# Altium schematic symbol library Regular_Components.SchLib: 60 symbols
Pins are listed as number, name and electrical type; pins without a type are passive.

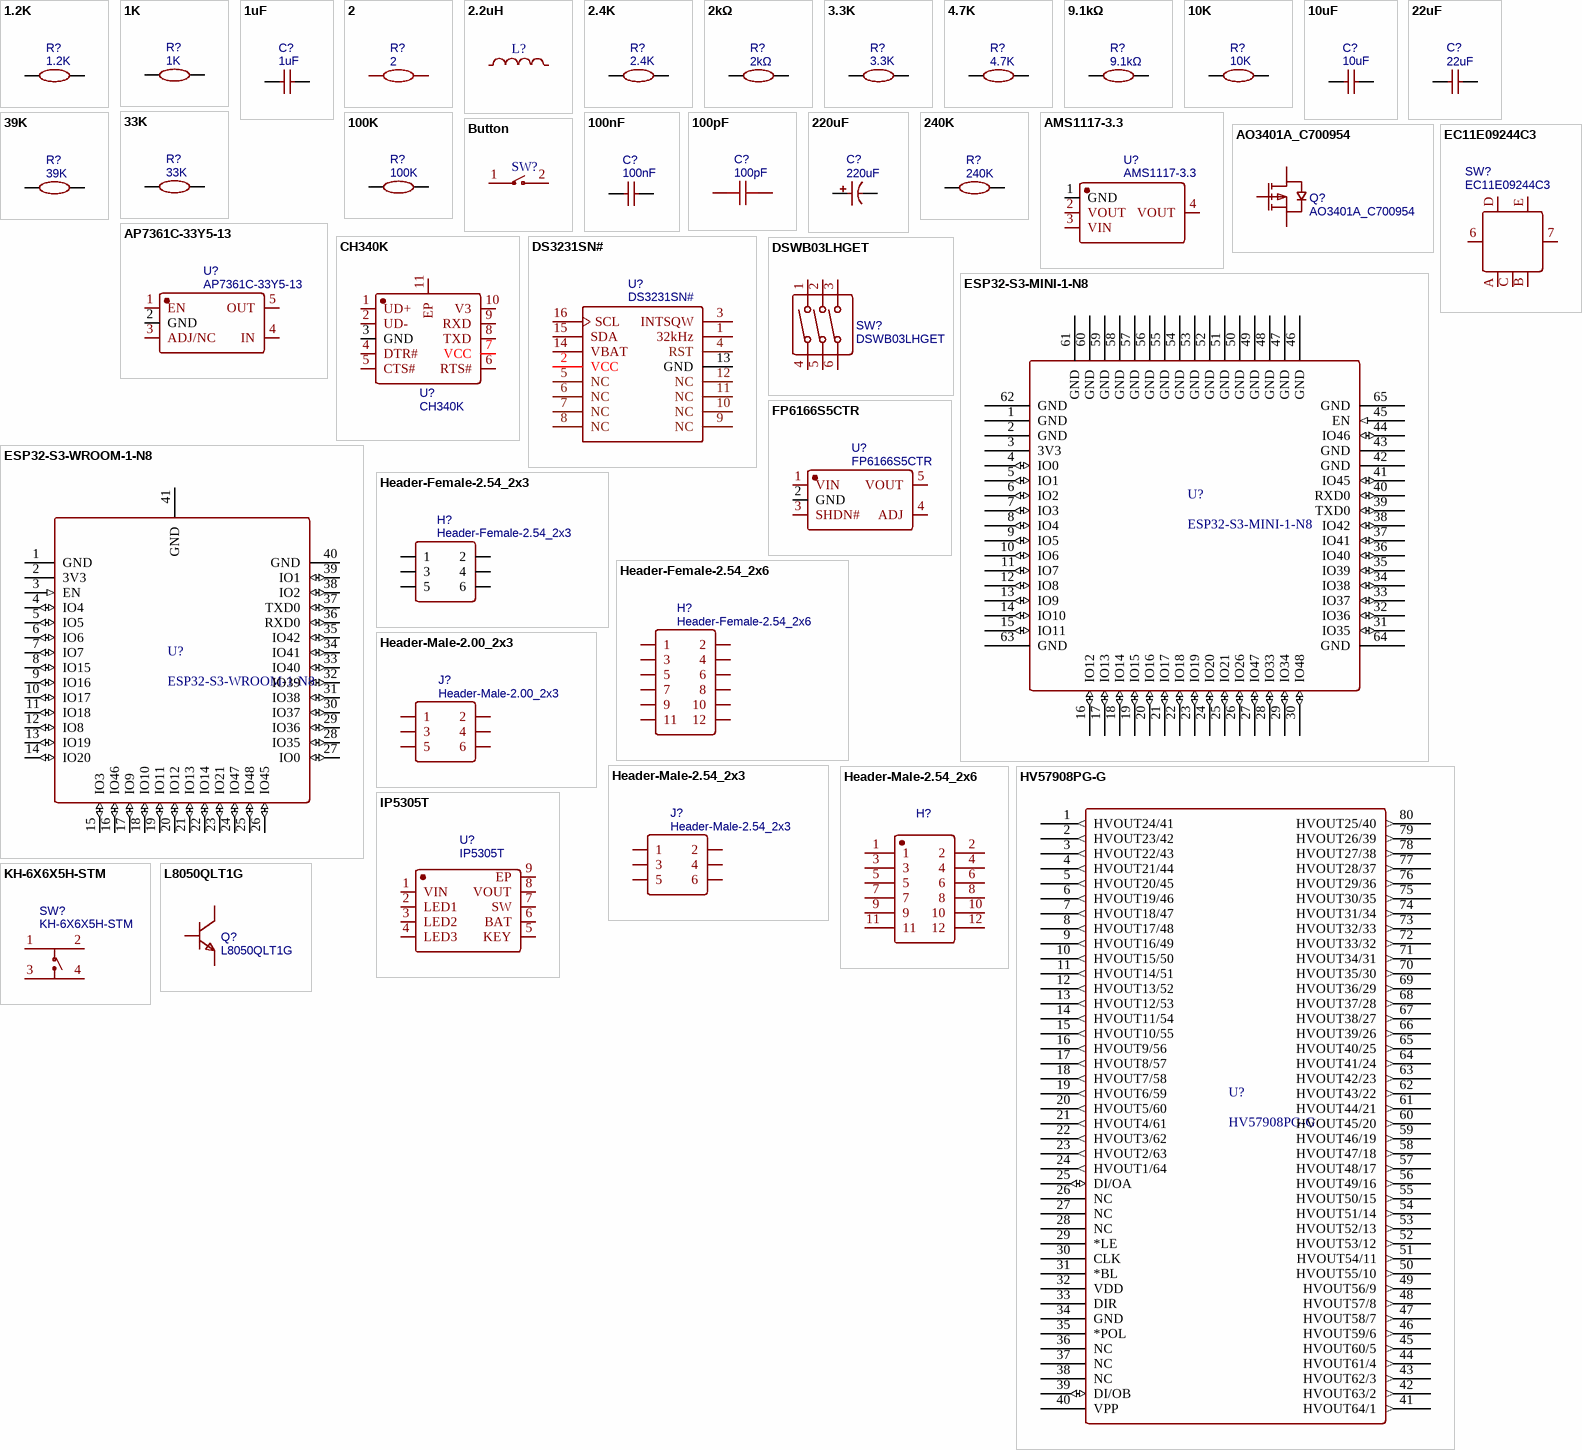
[diagram p0: symbols 1.2K to L8050QLT1G]

## 1.2K
designator R?
BOM_Manufacturer: YAGEO(国巨); BOM_Manufacturer Part: RC0402FR-071K2L; nameAlias: Resistance (Ohms); Resistance: 1.2kΩ; BOM_Supplier: LCSC; BOM_Supplier Part: C138040; BOM_JLCPCB Part Class: Extended Part; spicePre: R; spiceSymbolName: RC0402FR-071K2L
footprint R0402
pins: 1, 2

## 1K
designator R?
BOM_Manufacturer: YAGEO(国巨); BOM_Manufacturer Part: RC0402FR-071KL; nameAlias: Resistance (Ohms); Resistance: 1kΩ; BOM_Supplier: LCSC; BOM_Supplier Part: C106235; BOM_JLCPCB Part Class: Extended Part; spicePre: R; spiceSymbolName: RC0402FR-071KL
footprint R0402
pins: 1, 2

## 1uF
designator C?
BOM_Manufacturer Part: CL05A105KO5NNNC; BOM_Manufacturer: SAMSUNG(三星); nameAlias: Capacitance; BOM_Supplier: LCSC; BOM_Supplier Part: C29266; BOM_JLCPCB Part Class: Extended Part; spicePre: C; spiceSymbolName: CL05A105KO5NNNC
footprint C0402
pins: 1, 2

## 2
designator R?
BOM_Manufacturer: YAGEO(国巨); BOM_Manufacturer Part: RC0603FR-072RL; nameAlias: Resistance (Ohms); Contributor: LCSC; Resistance: 2Ω; BOM_Supplier: LCSC; BOM_Supplier Part: C185341; BOM_JLCPCB Part Class: Extended Part; spicePre: R; spiceSymbolName: RC0603FR-072RL
footprint R0603
pins: 1, 2

## 2.2uH
designator L?
footprint L_2.2uH
pins: 1, 2

## 2.4K
designator R?
BOM_Manufacturer: YAGEO(国巨); BOM_Manufacturer Part: RC0402FR-072K4L; nameAlias: Resistance (Ohms); Resistance: 2.4kΩ; BOM_Supplier: LCSC; BOM_Supplier Part: C112296; BOM_JLCPCB Part Class: Extended Part; spicePre: R; spiceSymbolName: RC0402FR-072K4L
footprint R0402
pins: 1, 2

## 2kΩ
designator R?
BOM_Manufacturer Part: 0402WGF2001TCE; BOM_Manufacturer: UNI-ROYAL(厚声); nameAlias: Resistance; Resistance (Ohms): 2K; BOM_Supplier: LCSC; BOM_Supplier Part: C4109; BOM_JLCPCB Part Class: Basic Part; spicePre: R; spiceSymbolName: 0402WGF2001TCE
footprint R0402
pins: 1, 2

## 3.3K
designator R?
BOM_Manufacturer: YAGEO(国巨); BOM_Manufacturer Part: RC0402FR-073K3L; nameAlias: Resistance (Ohms); Resistance: 3.3kΩ; BOM_Supplier: LCSC; BOM_Supplier Part: C137992; BOM_JLCPCB Part Class: Extended Part; spicePre: R; spiceSymbolName: RC0402FR-073K3L
footprint R0402
pins: 1, 2

## 4.7K
designator R?
BOM_Manufacturer: YAGEO(国巨); BOM_Manufacturer Part: RC0402FR-074K7L; nameAlias: Resistance (Ohms); Resistance: 4.7kΩ; BOM_Supplier: LCSC; BOM_Supplier Part: C105871; BOM_JLCPCB Part Class: Extended Part; spicePre: R; spiceSymbolName: RC0402FR-074K7L
footprint R0402
pins: 1, 2

## 9.1kΩ
designator R?
BOM_Manufacturer: UNI-ROYAL(厚声); BOM_Manufacturer Part: 0402WGF9101TCE; nameAlias: Resistance; Resistance (Ohms): 9.1K; BOM_Supplier: LCSC; BOM_Supplier Part: C25926; BOM_JLCPCB Part Class: Extended Part; spicePre: R; spiceSymbolName: 0402WGF9101TCE
footprint R0402
pins: 1, 2

## 10K
designator R?
BOM_Manufacturer: YAGEO(国巨); BOM_Manufacturer Part: RC0402FR-0710KL; nameAlias: Resistance (Ohms); Resistance: 10kΩ; BOM_Supplier: LCSC; BOM_Supplier Part: C60490; BOM_JLCPCB Part Class: Extended Part; spicePre: R; spiceSymbolName: RC0402FR-0710KL
footprint R0402
pins: 1, 2

## 10uF
designator C?
BOM_Manufacturer Part: CL21A106KOQNNNE; BOM_Manufacturer: SAMSUNG(三星); nameAlias: Capacitance; BOM_Supplier: LCSC; BOM_Supplier Part: C1713; BOM_JLCPCB Part Class: Extended Part; spicePre: C; spiceSymbolName: CL21A106KOQNNNE
footprint C0805
pins: 1, 2

## 22uF
designator C?
BOM_Manufacturer: SAMSUNG(三星); BOM_Manufacturer Part: CL21A226MOQNNNE; nameAlias: Capacitance; BOM_Supplier: LCSC; BOM_Supplier Part: C98190; BOM_JLCPCB Part Class: Extended Part; spicePre: C; spiceSymbolName: CL21A226MOQNNNE
footprint C0805
pins: 1, 2

## 33K
designator R?
BOM_Manufacturer: YAGEO(国巨); BOM_Manufacturer Part: RC0402FR-0733KL; nameAlias: Resistance (Ohms); Resistance: 33kΩ; BOM_Supplier: LCSC; BOM_Supplier Part: C138003; BOM_JLCPCB Part Class: Extended Part; spicePre: R; spiceSymbolName: RC0402FR-0733KL
footprint R0402
pins: 1, 2

## 39K
designator R?
BOM_Manufacturer: YAGEO(国巨); BOM_Manufacturer Part: RC0805FR-0720KL; nameAlias: Resistance (Ohms); Resistance: 20kΩ; BOM_Supplier: LCSC; BOM_Supplier Part: C114566; BOM_JLCPCB Part Class: Extended Part; spicePre: R; spiceSymbolName: RC0805FR-0720KL
footprint R0805
pins: 1, 2

## 100K
designator R?
BOM_Manufacturer: YAGEO(国巨); BOM_Manufacturer Part: RC0402FR-07100KL; nameAlias: Resistance (Ohms); Resistance: 100kΩ; BOM_Supplier: LCSC; BOM_Supplier Part: C60491; BOM_JLCPCB Part Class: Extended Part; spicePre: R; spiceSymbolName: RC0402FR-07100KL
footprint R0402
pins: 1, 2

## 100nF
designator C?
BOM_Manufacturer Part: CL05B104KO5NNNC; BOM_Manufacturer: SAMSUNG(三星); nameAlias: Capacitance; BOM_Supplier: LCSC; BOM_Supplier Part: C1525; BOM_JLCPCB Part Class: Basic Part; spicePre: C; spiceSymbolName: CL05B104KO5NNNC
footprint C0402_NEW
pins: 1, 2

## 100pF
designator C?
BOM_Manufacturer: YAGEO(国巨); BOM_Manufacturer Part: CC0402JRNPO9BN101; nameAlias: Capacitance; BOM_Supplier: LCSC; BOM_Supplier Part: C106200; BOM_JLCPCB Part Class: Extended Part; spicePre: C; spiceSymbolName: CC0603JRNPO9BN101
footprint C0402
pins: 1, 2

## 220uF
designator C?
BOM_Manufacturer: CX(承兴); BOM_Manufacturer Part: EF227M010E05RR0VH4FP0; nameAlias: Capacitance; BOM_Supplier: LCSC; BOM_Supplier Part: C43330; BOM_JLCPCB Part Class: Extended Part; spicePre: C; spiceSymbolName: 220uF 10Vblack gold 6.3*5
footprint CAP-TH_BD6.3-P2.50-D1.0-FD
pins: 1, 2

## 240K
designator R?
BOM_Manufacturer: YAGEO(国巨); BOM_Manufacturer Part: RC0805FR-07240KL; nameAlias: Resistance (Ohms); Resistance: 240kΩ; BOM_Supplier: LCSC; BOM_Supplier Part: C137564; BOM_JLCPCB Part Class: Extended Part; spicePre: R; spiceSymbolName: RC0805FR-07240KL
footprint R0805
pins: 1, 2

## AMS1117-3.3
designator U?
BOM_Manufacturer: AMS; sourceId: dwIGgezVh; timeStamp: 1476261164; BOM_Supplier: LCSC; BOM_Manufacturer Part: AMS1117-3.3; BOM_Supplier Part: C6186; BOM_JLCPCB Part Class: Basic Part; spicePre: U; spiceSymbolName: AMS1117-3.3
footprint SOT-223-3_L6.5-W3.4-P2.30-LS7.0-BR
pins: 1 GND, 2 VOUT, 3 VIN, 4 VOUT

## AO3401A_C700954
designator Q?
BOM_Manufacturer: HUASHUO(华朔); Contributor: LCSC; BOM_Supplier: LCSC; BOM_Supplier Part: C700954; BOM_Manufacturer Part: AO3401A; BOM_JLCPCB Part Class: Extended Part; spicePre: Q; spiceSymbolName: AO3401A_C700954
footprint SOT-23-3_L2.9-W1.3-P1.90-LS2.4-BR
pins: 1 G, 2 S, 3 D

## AP7361C-33Y5-13
designator U?
BOM_Manufacturer: DIODES(美台); Contributor: LCSC; BOM_Supplier: LCSC; BOM_Supplier Part: C460397; BOM_Manufacturer Part: AP7361C-33Y5-13; BOM_JLCPCB Part Class: Extended Part; spicePre: U; spiceSymbolName: AP7361C-33Y5-13
footprint SOT-89-5_L4.5-W2.5-P1.50-LS4.5-BR
pins: 1 EN, 2 GND, 3 ADJ/NC, 4 IN, 5 OUT

## Button
designator SW?
footprint Button
pins: 1, 2

## CH340K
designator U?
BOM_Manufacturer: WCH(南京沁恒); Contributor: LCSC; BOM_Supplier: LCSC; BOM_Supplier Part: C968586; BOM_Manufacturer Part: CH340K; BOM_JLCPCB Part Class: Extended Part; spicePre: U; spiceSymbolName: CH340K
footprint ESOP-10_L4.9-W3.9-P1.00-LS6.2-BL-EP
pins: 1 UD+, 2 UD-, 3 GND, 4 DTR#, 5 CTS#, 6 RTS#, 7 VCC, 8 TXD, 9 RXD, 10 V3, 11 EP

## DS3231SN#
designator U?
BOM_Manufacturer: MAXIM(美信); BOM_Manufacturer Part: DS3231SN#T&R; subpart_no: 1; tags: Clock; BOM_Supplier Part: C9866; BOM_Supplier: LCSC; image: http://image.lceda.cn/szlcsc/C9866.jpg; BOM_JLCPCB Part Class: Extended Part; spicePre: U; spiceSymbolName: DS3231SN#
footprint SOIC-16_L10.3-W7.5-P1.27-LS10.3-BL
pins: 1 32kHz, 2 VCC, 3 INTSQW, 4 RST, 5 NC, 6 NC, 7 NC, 8 NC, 9 NC, 10 NC, 11 NC, 12 NC, 13 GND, 14 VBAT, 15 SDA, 16 SCL

## DSWB03LHGET
designator SW?
BOM_Manufacturer: YE; BOM_Manufacturer Part: 拨码开关,平拨开关,DSWB03LHGET; Contributor: LCSC; BOM_Supplier: LCSC; BOM_Supplier Part: C99420; BOM_JLCPCB Part Class: Extended Part; spicePre: S; spiceSymbolName: DSWB03LHGET
footprint SW-TH_DSWB03LHGET
pins: 1, 2, 3, 4, 5, 6

## EC11E09244C3
designator SW?
BOM_Manufacturer: ALPSALPINE(阿尔卑斯阿尔派); Contributor: LCSC; BOM_Supplier: LCSC; BOM_Supplier Part: C2687283; BOM_Manufacturer Part: EC11E09244C3; BOM_JLCPCB Part Class: Extended Part; spicePre: S; spiceSymbolName: EC11E09244C3
footprint SW-TH_EC11E09244C3
pins: 6 EH, 7 EH, A, B, C, D, E

## ESP32-S3-MINI-1-N8
designator U?
Mfr_Name: Espressif Systems; Copyright: Copyright (C) 2023 Ultra Librarian. All rights reserved.; Manufacturer_Part_Number: ESP32-S3-MINI-1-N8; RefDes: RefDes; Type: Type
footprint ESP32-S3-MINI-1_EXP
pins: 1 GND, 2 GND, 3 3V3 (power), 4 IO0 (io), 5 IO1 (io), 6 IO2 (io), 7 IO3 (io), 8 IO4 (io), 9 IO5 (io), 10 IO6 (io), 11 IO7 (io), 12 IO8 (io), 13 IO9 (io), 14 IO10 (io), 15 IO11 (io), 16 IO12 (io), 17 IO13 (io), 18 IO14 (io), 19 IO15 (io), 20 IO16 (io), 21 IO17 (io), 22 IO18 (io), 23 IO19 (io), 24 IO20 (io), 25 IO21 (io), 26 IO26 (io), 27 IO47 (io), 28 IO33 (io), 29 IO34 (io), 30 IO48 (io), 31 IO35 (io), 32 IO36 (io), 33 IO37 (io), 34 IO38 (io), 35 IO39 (io), 36 IO40 (io), 37 IO41 (io), 38 IO42 (io), 39 TXD0 (io), 40 RXD0 (io), 41 IO45 (io), 42 GND, 43 GND, 44 IO46 (io), 45 EN (in), 46 GND, 47 GND, 48 GND, 49 GND, 50 GND, 51 GND, 52 GND, 53 GND, 54 GND, 55 GND, 56 GND, 57 GND, 58 GND, 59 GND, 60 GND, 61 GND, 62 GND, 63 GND, 64 GND, 65 GND

## ESP32-S3-WROOM-1-N8
designator U?
Mfr_Name: Espressif Systems; Copyright: Copyright (C) 2023 Ultra Librarian. All rights reserved.; Manufacturer_Part_Number: ESP32-S3-WROOM-1-N8; RefDes: RefDes; Type: DEV
footprint ESP32-S3-WROOM-1-N8_EXP
pins: 1 GND, 2 3V3 (power), 3 EN (in), 4 IO4 (io), 5 IO5 (io), 6 IO6 (io), 7 IO7 (io), 8 IO15 (io), 9 IO16 (io), 10 IO17 (io), 11 IO18 (io), 12 IO8 (io), 13 IO19 (io), 14 IO20 (io), 15 IO3 (io), 16 IO46 (io), 17 IO9 (io), 18 IO10 (io), 19 IO11 (io), 20 IO12 (io), 21 IO13 (io), 22 IO14 (io), 23 IO21 (io), 24 IO47 (io), 25 IO48 (io), 26 IO45 (io), 27 IO0 (io), 28 IO35 (io), 29 IO36 (io), 30 IO37 (io), 31 IO38 (io), 32 IO39 (io), 33 IO40 (io), 34 IO41 (io), 35 IO42 (io), 36 RXD0 (io), 37 TXD0 (io), 38 IO2 (io), 39 IO1 (io), 40 GND, 41 GND

## FP6166S5CTR
designator U?
BOM_Manufacturer: FITIPOWER(天钰); Contributor: LCSC; BOM_Supplier: LCSC; BOM_Supplier Part: C389166; BOM_Manufacturer Part: FP6166S5CTR; BOM_JLCPCB Part Class: Extended Part; spicePre: U; spiceSymbolName: FP6166S5CTR
footprint SOT-23-5_L3.0-W1.7-P0.95-LS2.8-BL
pins: 1 VIN, 2 GND, 3 SHDN#, 4 ADJ, 5 VOUT

## Header-Female-2.54_2x3
designator H?
BOM_Manufacturer: CONNFLY; BOM_Manufacturer Part: DS1023-2*3SF11; Contributor: LCSC; BOM_Supplier: LCSC; BOM_Supplier Part: C92272; BOM_JLCPCB Part Class: Extended Part; spicePre: H; spiceSymbolName: Header-Female-2.54_2x3
footprint HDR-TH_6P-P2.54-V-F-R2-C3-S2.54
pins: 1, 2, 3, 4, 5, 6

## Header-Female-2.54_2x6
designator H?
BOM_Manufacturer: BOOMELE(博穆精密); BOM_Manufacturer Part: 2.54-2*6P母; BOM_Supplier: LCSC; BOM_Supplier Part: C36191; BOM_JLCPCB Part Class: Extended Part; spicePre: H; spiceSymbolName: Header-Female-2.54_2x6
footprint HDR-TH_12P-P2.54-V-F-R2-C6-S2.54
pins: 1, 2, 3, 4, 5, 6, 7, 8, 9, 10, 11, 12

## Header-Male-2.00_2x3
designator J?
footprint HDR2.0-LI-2X3P (直插，脚距：2.0mm)
pins: 1, 2, 3, 4, 5, 6

## Header-Male-2.54_2x3
designator J?
BOM_Manufacturer: BOOMELE(博穆精密); BOM_Manufacturer Part: 2.54-2*3P针; BOM_Supplier: LCSC; BOM_Supplier Part: C65114; BOM_JLCPCB Part Class: Extended Part; spicePre: J; spiceSymbolName: Header-Male-2.54_2x3
footprint HDR-TH_6P-P2.54-V-M-R2-C3-S2.54-1
pins: 1, 2, 3, 4, 5, 6

## Header-Male-2.54_2x6
designator H?, comment 210S-2*6P L=11.6MMGold-plated black  (value not drawn)
BOM_Manufacturer: Ckmtw(灿科盟); BOM_Manufacturer Part: B-2100S12P-B110; Contributor: LCSC; BOM_Supplier: LCSC; BOM_Supplier Part: C124388; BOM_JLCPCB Part Class: Extended Part; spicePre: H; spiceSymbolName: 210S-2*6P L=11.6MMGold-plated black
footprint HDR-TH_12P-P2.54-V-M-R2-C6-S2.54
pins: 1, 2, 3, 4, 5, 6, 7, 8, 9, 10, 11, 12

## HV57908PG-G
designator U?
Mfr_Name: Microchip; Copyright: Copyright (C) 2022 Ultra Librarian. All rights reserved.; Manufacturer_Part_Number: HV57908PG-G; RefDes: RefDes; Type: DEV
footprint PQFP80_20X14MC_MCH
pins: 1 HVOUT24/41 (out), 2 HVOUT23/42 (out), 3 HVOUT22/43 (out), 4 HVOUT21/44 (out), 5 HVOUT20/45 (out), 6 HVOUT19/46 (out), 7 HVOUT18/47 (out), 8 HVOUT17/48 (out), 9 HVOUT16/49 (out), 10 HVOUT15/50 (out), 11 HVOUT14/51 (out), 12 HVOUT13/52 (out), 13 HVOUT12/53 (out), 14 HVOUT11/54 (out), 15 HVOUT10/55 (out), 16 HVOUT9/56 (out), 17 HVOUT8/57 (out), 18 HVOUT7/58 (out), 19 HVOUT6/59 (out), 20 HVOUT5/60 (out), 21 HVOUT4/61 (out), 22 HVOUT3/62 (out), 23 HVOUT2/63 (out), 24 HVOUT1/64 (out), 25 DI/OA (io), 26 NC, 27 NC, 28 NC, 29 *LE, 30 CLK, 31 *BL, 32 VDD (power), 33 DIR, 34 GND, 35 *POL, 36 NC, 37 NC, 38 NC, 39 DI/OB (io), 40 VPP (power), 41 HVOUT64/1 (out), 42 HVOUT63/2 (out), 43 HVOUT62/3 (out), 44 HVOUT61/4 (out), 45 HVOUT60/5 (out), 46 HVOUT59/6 (out), 47 HVOUT58/7 (out), 48 HVOUT57/8 (out), 49 HVOUT56/9 (out), 50 HVOUT55/10 (out), 51 HVOUT54/11 (out), 52 HVOUT53/12 (out), 53 HVOUT52/13 (out), 54 HVOUT51/14 (out), 55 HVOUT50/15 (out), 56 HVOUT49/16 (out), 57 HVOUT48/17 (out), 58 HVOUT47/18 (out), 59 HVOUT46/19 (out), 60 HVOUT45/20 (out), 61 HVOUT44/21 (out), 62 HVOUT43/22 (out), 63 HVOUT42/23 (out), 64 HVOUT41/24 (out), 65 HVOUT40/25 (out), 66 HVOUT39/26 (out), 67 HVOUT38/27 (out), 68 HVOUT37/28 (out), 69 HVOUT36/29 (out), 70 HVOUT35/30 (out), 71 HVOUT34/31 (out), 72 HVOUT33/32 (out), 73 HVOUT32/33 (out), 74 HVOUT31/34 (out), 75 HVOUT30/35 (out), 76 HVOUT29/36 (out), 77 HVOUT28/37 (out), 78 HVOUT27/38 (out), 79 HVOUT26/39 (out), 80 HVOUT25/40 (out)

## IP5305T
designator U?
BOM_Manufacturer: INJOINIC(英集芯); Contributor: LCSC; BOM_Supplier: LCSC; BOM_Supplier Part: C2982924; BOM_Manufacturer Part: IP5305T; link: https://atta.szlcsc.com/upload/public/pdf/source/20220321/07FA860261DB7C99CD3F2F36D10D3B23.pdf; BOM_JLCPCB Part Class: Extended Part; spicePre: U; spiceSymbolName: IP5305T
footprint ESOP-8_L4.9-W3.9-P1.27-LS6.0-BL-EP
pins: 1 VIN, 2 LED1, 3 LED2, 4 LED3, 5 KEY, 6 BAT, 7 SW, 8 VOUT, 9 EP

## KH-6X6X5H-STM
designator SW?
BOM_Manufacturer: kinghelm(金航标); Contributor: LCSC; BOM_Supplier: LCSC; BOM_Supplier Part: C2837531; BOM_Manufacturer Part: KH-6X6X5H-STM; BOM_JLCPCB Part Class: Extended Part; spicePre: S; spiceSymbolName: KH-6X6X5H-STM
footprint SW-SMD_4P-L6.0-W6.0-P4.50-LS9.0-2
pins: 1, 2, 3, 4

## L8050QLT1G
designator Q?
BOM_Manufacturer: LRC(乐山无线电); BOM_Supplier: LCSC; BOM_Manufacturer Part: L8050QLT1G; BOM_Supplier Part: C49581; BOM_JLCPCB Part Class: Extended Part; spicePre: Q; spiceSymbolName: L8050QLT1G
footprint SOT-23-3_L2.9-W1.3-P1.90-LS2.4-BR
pins: 1 B, 2 E, 3 C

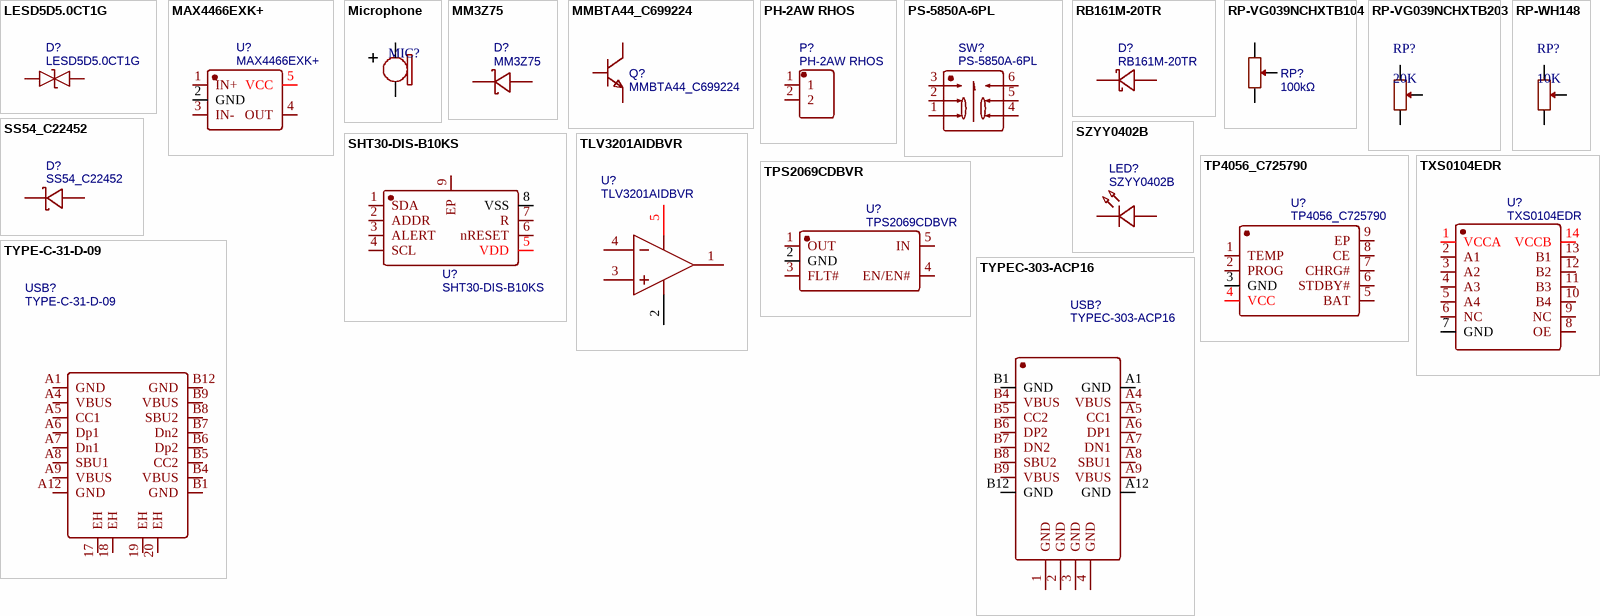
[diagram p1: symbols LESD5D5.0CT1G to TYPEC-303-ACP16]

## LESD5D5.0CT1G
designator D?
BOM_Manufacturer: LRC(乐山无线电); Contributor: LCSC; BOM_Supplier: LCSC; BOM_Supplier Part: C383211; BOM_Manufacturer Part: LESD5D5.0CT1G; BOM_JLCPCB Part Class: Extended Part; spicePre: D; spiceSymbolName: LESD5D5.0CT1G
footprint SOD-523_L1.2-W0.8-LS1.6-BI
pins: 1, 2

## MAX4466EXK+
designator U?
BOM_Manufacturer: null; Contributor: LCSC; BOM_Supplier: LCSC; BOM_Supplier Part: C2892801; BOM_Manufacturer Part: MAX4466EXK+; BOM_JLCPCB Part Class: Extended Part; spicePre: U; spiceSymbolName: MAX4466EXK+
footprint SC-70-5_L2.0-W1.3-P0.65-LS2.2-BL
pins: 1 IN+, 2 GND, 3 IN-, 4 OUT, 5 VCC

## Microphone
designator MIC?
footprint Microphone
pins: 1, 2

## MM3Z75
designator D?
BOM_Manufacturer: ST(先科); Contributor: LCSC; BOM_Supplier: LCSC; BOM_Manufacturer Part: MM3Z75; BOM_Supplier Part: C118626; BOM_JLCPCB Part Class: Extended Part; spicePre: D; spiceSymbolName: MM3Z75
footprint SOD-323_L1.8-W1.3-LS2.5-RD
pins: 1 C, 2 A

## MMBTA44_C699224
designator Q?
BOM_Manufacturer: YANGJIE(扬杰); Contributor: LCSC; BOM_Supplier: LCSC; BOM_Supplier Part: C699224; BOM_Manufacturer Part: MMBTA44; BOM_JLCPCB Part Class: Extended Part; spicePre: Q; spiceSymbolName: MMBTA44_C699224
footprint SOT-23-3_L2.9-W1.3-P1.90-LS2.4-BR
pins: 1 B, 2 E, 3 C

## PH-2AW RHOS
designator P?
BOM_Manufacturer: BOOMELE; spicePre: X; BOM_Supplier: LCSC; BOM_Manufacturer Part: PH-2AW RHOS; BOM_Supplier Part: C16965; BOM_JLCPCB Part Class: Extended Part; spiceSymbolName: PH-2AW RHOS
footprint CONN-TH_2P-P2.00_PH-2AW
pins: 1, 2

## PS-5850A-6PL
designator SW?
BOM_Manufacturer: G-Switch; Contributor: LCSC; BOM_Supplier: LCSC; BOM_Supplier Part: C963201; BOM_Manufacturer Part: PS-5850A-6PL; BOM_JLCPCB Part Class: Extended Part; spicePre: S; spiceSymbolName: PS-5850A-6PL
footprint SW-TH_6P-L5.8-W5.8-P2.00-LS4.5-BL
pins: 1, 2, 3, 4, 5, 6

## RB161M-20TR
designator D?
BOM_Manufacturer: ROHM(罗姆); Contributor: LCSC; BOM_Supplier: LCSC; BOM_Supplier Part: C427072; BOM_Manufacturer Part: RB161M-20TR; BOM_JLCPCB Part Class: Extended Part; spicePre: D; spiceSymbolName: RB161M-20TR
footprint SOD-123_L2.6-W1.6-LS3.5-RD-1
pins: 1 K, 2 A

## RP-VG039NCHXTB104
designator RP?, comment 100kΩ
BOM_Manufacturer: HDK(北陆电气); BOM_Manufacturer Part: VG039NCHXTB104; nameAlias: Resistance; Contributor: LCSC; Resistance(Ohms): 100K; BOM_Supplier: LCSC; BOM_Supplier Part: C128545; Resistance (Ohms): 100K; BOM_JLCPCB Part Class: Extended Part; spicePre: R; spiceSymbolName: VG039NCHXTB104
footprint RES-ADJ-SMD_VG039NCH
pins: 1, 2, 3

## RP-VG039NCHXTB203
designator RP?, comment 20K
BOM名称: 插件电位器; 版权归属: 源创客; 学习资源: www.ooocke.com
footprint RES-ADJ-SMD_VG039NCH
pins: 1, 2, 3

## RP-WH148
designator RP?, comment 10K
BOM名称: 插件电位器; 版权归属: 源创客; 学习资源: www.ooocke.com
footprint WH148-W-B10K
pins: 1, 2, 3

## SHT30-DIS-B10KS
designator U?
BOM_Manufacturer: Sensirion(瑞士盛思锐); Contributor: LCSC; BOM_Supplier: LCSC; BOM_Supplier Part: C2687423; BOM_Manufacturer Part: SHT30-DIS-B10KS; BOM_JLCPCB Part Class: Extended Part; spicePre: U; spiceSymbolName: SHT30-DIS-B10KS
footprint DFN-8_L2.5-W2.5-P0.50-BL-EP
pins: 1 SDA, 2 ADDR, 3 ALERT, 4 SCL, 5 VDD, 6 nRESET, 7 R, 8 VSS, 9 EP

## SS54_C22452
designator D?
BOM_Manufacturer Part: SS54; BOM_Manufacturer: MDD; BOM_Supplier: LCSC; BOM_Supplier Part: C22452; BOM_JLCPCB Part Class: Basic Part; spicePre: D; spiceSymbolName: SS54_C22452
footprint SMA_L4.4-W2.8-LS5.4-R-RD
pins: 1 A, 2 K

## SZYY0402B
designator LED?
BOM_Manufacturer: yongyu(永裕光电); Contributor: LCSC; BOM_Supplier: LCSC; BOM_Supplier Part: C434447; BOM_Manufacturer Part: SZYY0402B; BOM_JLCPCB Part Class: Extended Part; spicePre: L; spiceSymbolName: SZYY0402B
footprint LED0402-RD_BLUE
pins: 1 K, 2 A

## TLV3201AIDBVR
designator U?
BOM_Manufacturer: TI(德州仪器); BOM_Supplier: LCSC; BOM_Manufacturer Part: TLV3201AIDBVR; BOM_Supplier Part: C105188; BOM_JLCPCB Part Class: Extended Part; spicePre: U; spiceSymbolName: TLV3201AIDBVR
footprint SOT-23-5_L3.0-W1.7-P0.95-LS2.8-BR
pins: 1 OUT, 2 GND, 3 IN+, 4 IN-, 5 VCC

## TP4056_C725790
designator U?
BOM_Manufacturer: UMW(友台半导体); BOM_Manufacturer Part: TP4056; Contributor: LCSC; BOM_Supplier: LCSC; BOM_Supplier Part: C725790; BOM_JLCPCB Part Class: Extended Part; spicePre: U; spiceSymbolName: TP4056_C725790
footprint ESOP-8_L4.9-W3.9-P1.27-LS6.0-BL-EP
pins: 1 TEMP, 2 PROG, 3 GND, 4 VCC, 5 BAT, 6 STDBY#, 7 CHRG#, 8 CE, 9 EP

## TPS2069CDBVR
designator U?
BOM_Manufacturer: TI(德州仪器); Contributor: LCSC; BOM_Supplier: LCSC; BOM_Supplier Part: C181752; BOM_Manufacturer Part: TPS2069CDBVR; BOM_JLCPCB Part Class: Extended Part; spicePre: U; spiceSymbolName: TPS2069CDBVR
footprint SOT-23-5_L3.0-W1.7-P0.95-LS2.8-BR
pins: 1 OUT, 2 GND, 3 FLT#, 4 EN/EN#, 5 IN

## TXS0104EDR
designator U?
BOM_Manufacturer: TI(德州仪器); Contributor: LCSC; BOM_Supplier: LCSC; BOM_Manufacturer Part: TXS0104EDR; BOM_Supplier Part: C79342; BOM_JLCPCB Part Class: Extended Part; spicePre: U; spiceSymbolName: TXS0104EDR
footprint SOIC-14_L8.7-W3.9-P1.27-LS6.0-BL
pins: 1 VCCA, 2 A1, 3 A2, 4 A3, 5 A4, 6 NC, 7 GND, 8 OE, 9 NC, 10 B4, 11 B3, 12 B2, 13 B1, 14 VCCB

## TYPE-C-31-D-09
designator USB?
BOM_Manufacturer: 韩国韩荣; Contributor: LCSC; BOM_Supplier: LCSC; BOM_Supplier Part: C2848615; BOM_Manufacturer Part: TYPE-C-31-D-09; BOM_JLCPCB Part Class: Extended Part; spicePre: U; spiceSymbolName: TYPE-C-31-D-09
footprint USB-C-TH_TYPE-C-31-D-09
pins: 17 EH, 18 EH, 19 EH, 20 EH, A1 GND, A4 VBUS, A5 CC1, A6 Dp1, A7 Dn1, A8 SBU1, A9 VBUS, A12 GND, B1 GND, B4 VBUS, B5 CC2, B6 Dp2, B7 Dn2, B8 SBU2, B9 VBUS, B12 GND

## TYPEC-303-ACP16
designator USB?
BOM_Manufacturer: XUNPU(讯普); Contributor: LCSC; BOM_Supplier: LCSC; BOM_Supplier Part: C720628; BOM_Manufacturer Part: TYPEC-303-ACP16; BOM_JLCPCB Part Class: Extended Part; spicePre: U; spiceSymbolName: TYPEC-303-ACP16
footprint USB-C-SMD_TYPEC-303-ACP16
pins: 1 GND, 2 GND, 3 GND, 4 GND, A1 GND, A4 VBUS, A5 CC1, A6 DP1, A7 DN1, A8 SBU1, A9 VBUS, A12 GND, B1 GND, B4 VBUS, B5 CC2, B6 DP2, B7 DN2, B8 SBU2, B9 VBUS, B12 GND